# EAGLE library part MOSFET-N-P-DUAL (library pimoroni-ics)
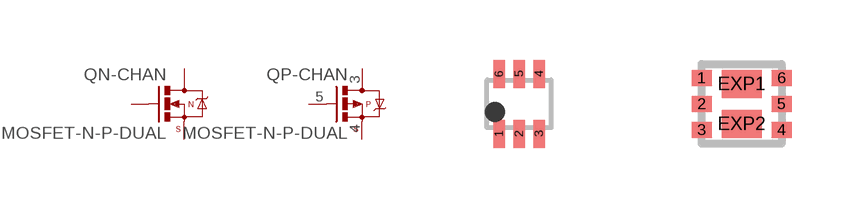
[diagram p120: symbol with the pads of SOT563-ORI; footprints SOT563-ORI, DFN2020-6L]

Designator prefix Q; gates N-CHAN=MOSFET-NCHANNEL P-CHAN=MOSFET-PCHANNEL

## MOSFET-N-P-DUALDMC2400UV  [SOT563-ORI]
1  N-CHAN:S  pas
2  N-CHAN:G  pas
3  P-CHAN:D  pas
4  P-CHAN:S  pas
5  P-CHAN:G  pas
6  N-CHAN:D  pas

## MOSFET-N-P-DUAL_DMC1030UFDB  [DFN2020-6L]
1  N-CHAN:S  pas
2  N-CHAN:G  pas
3  P-CHAN:D  pas
4  P-CHAN:S  pas
5  P-CHAN:G  pas
6  N-CHAN:D  pas
EXP1  N-CHAN:D  pas
EXP2  P-CHAN:D  pas

## Footprint SOT563-ORI (pad centres in mm)
smd 0.3 x 0.7: 1 -0.5,-0.75; 2 0,-0.75; 3 0.5,-0.75; 4 0.5,0.75; 5 0,0.75; 6 -0.5,0.75

## Footprint DFN2020-6L (pad centres in mm)
smd 0.5 x 0.4: 1 -1,0.65; 2 -1,0; 3 -1,-0.65; 4 1,-0.65; 5 1,0; 6 1,0.65
smd 1 x 0.7: EXP1 0,0.5; EXP2 0,-0.5